# EAGLE library part 74LVC1G57DW-7 (library diodes-inc-e14)
CONFIGURABLE MULTIPLE-FUNCTION GATE
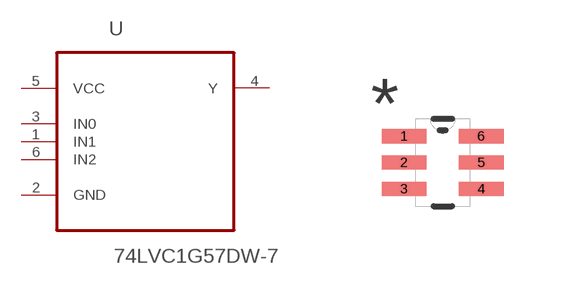
[diagram p4: symbol with the pads of SOT65P210X110-6N; footprint SOT65P210X110-6N]

Designator prefix U

## 74LVC1G57DW-7 (MPN: 74LVC1G57DW-7; OC_FARNELL: 1893836; OC_NEWARK: 47T3923; PACKAGE: SOT-6; SUPPLIER: DIODES INC.)  [SOT65P210X110-6N]
1  IN1  in
2  GND  pas
3  IN0  in
4  Y  out
5  VCC  pwr
6  IN2  in

## Footprint SOT65P210X110-6N (pad centres in mm)
smd 1.118 x 0.356: 1 -0.965,0.66; 2 -0.965,0; 3 -0.965,-0.66; 4 0.965,-0.66; 5 0.965,0; 6 0.965,0.66